# Altium footprint library Library.PcbLib: 1 footprints
Each footprint in its own frame and in the unit in brackets; x right, y up, seen from the top. Pads: shape width x height; smd on the part's side, far side on the other; paste and mask are expansions set on the pad; w line width, h text height; cw(c..) or ccw(c..) is an arc to the next point about the centre after c.
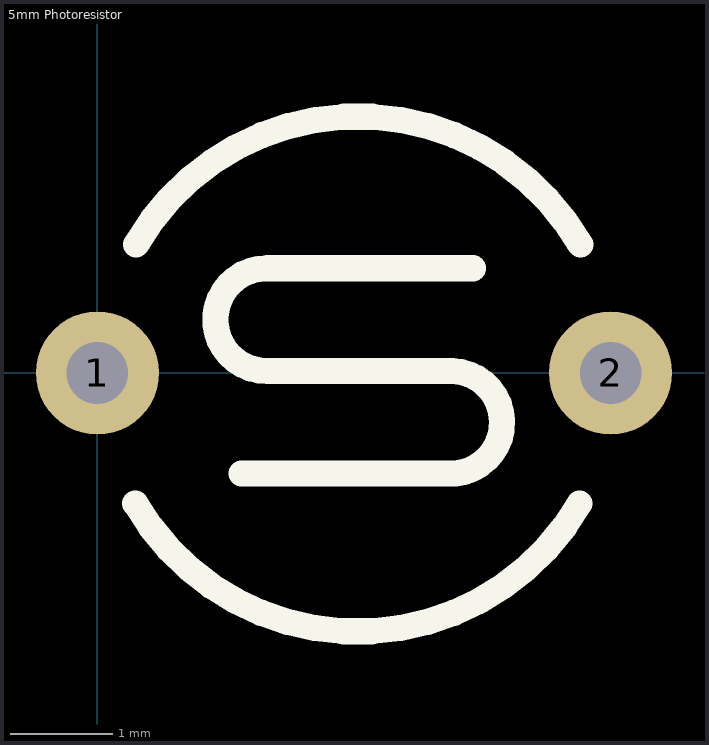
[diagram p0: the footprint, top view; thin cyan lines are the x and y axes]

## 5mm Photoresistor [mm]
pads (2):
  round 1.2 hole 0.6: 1(0,0) 2(5,0)
Top Overlay:
  lines w0.254: 0.369,-1.27 ccw(c2.534,-0.02) 4.699,-1.27 ; 0.375,1.25 cw(c2.54,0) 4.705,1.25 ; 1.403,-0.98 3.403,-0.98 ccw(c3.442,-0.481) 3.457,0.02 1.657,0.02 cw(c1.649,0.52) 1.657,1.02 3.657,1.02
3D body "photoresistor-5mm.SLDPRT": height 4.1, standoff -7, extent 0.228,-1.894 4.778,1.906